# EAGLE library part PREC070F05X2R90 (library con-pinheader-precision)
female precision header
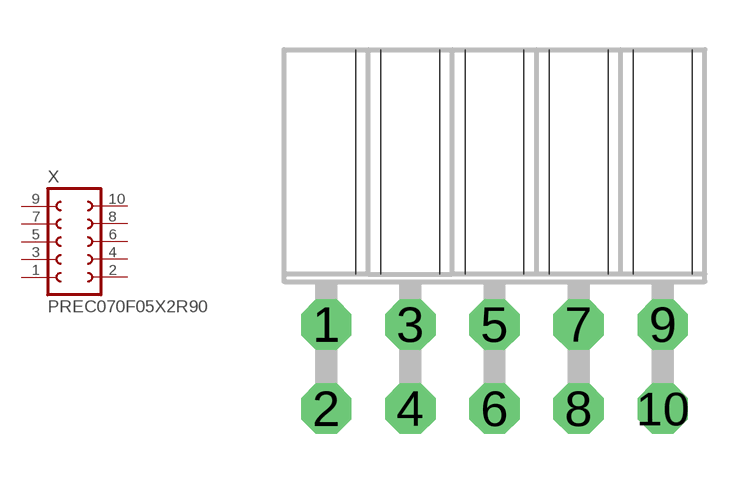
[diagram p18: symbol with the pads of PREC070F05X2R90; footprint PREC070F05X2R90]

Designator prefix X

## PREC070F05X2R90  [PREC070F05X2R90]
1  1  pas
2  2  pas
3  3  pas
4  4  pas
5  5  pas
6  6  pas
7  7  pas
8  8  pas
9  9  pas
10  10  pas

## Footprint PREC070F05X2R90 (pad centres in mm)
female precision header
drill 1.016 octagon: 1 -5.08,1.27; 2 -5.08,-1.27; 3 -2.54,1.27; 4 -2.54,-1.27; 5 0,1.27; 6 0,-1.27; 7 2.54,1.27; 8 2.54,-1.27; 9 5.08,1.27; 10 5.08,-1.27